# Altium footprint library BB-HEADER-P21-P40.PcbLib: 1 footprints
Each footprint in its own frame and in the unit in brackets; x right, y up, seen from the top. Pads: shape width x height; smd on the part's side, far side on the other; paste and mask are expansions set on the pad; w line width, h text height; cw(c..) or ccw(c..) is an arc to the next point about the centre after c.
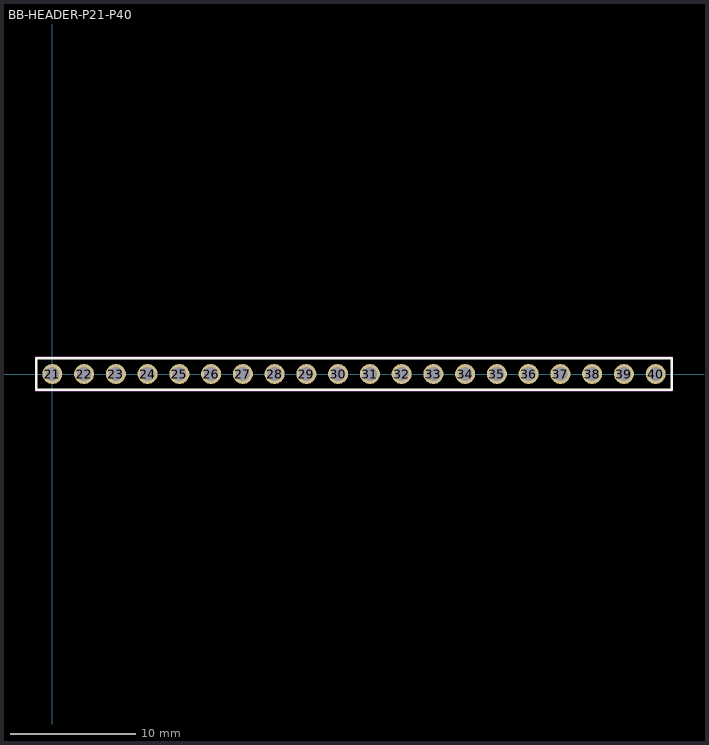
[diagram p0: the footprint, top view; thin cyan lines are the x and y axes]

## BB-HEADER-P21-P40 [mm] "BB Header, Vertical, Male, 0.1\", 2.54mm, P21-P40"
height 11.6
pads (20):
  round 1.6 hole 1.1: 21(0,0) 22(2.54,0)
  round 1.6 hole 1.1 unplated: 23(5.08,0) 24(7.62,0) 25(10.16,0) 26(12.7,0) 27(15.24,0) 28(17.78,0) 29(20.32,0) 30(22.86,0) 31(25.4,0) 32(27.94,0) 33(30.48,0) 34(33.02,0) 35(35.56,0) 36(38.1,0) 37(40.64,0) 38(43.18,0) 39(45.72,0) 40(48.26,0)
Top Overlay:
  lines w0.2: -1.27,-1.27 -1.27,1.27 0.635,1.27 49.53,1.27 49.53,-1.27 -1.27,-1.27
Mechanical 13:
  lines w0.1: -1.27,-1.27 -1.27,1.27 49.53,1.27 49.53,-1.27 -1.27,-1.27
Mechanical 15:
  lines w0.1: -1.32,-1.32 49.58,-1.32 49.58,1.32 -1.32,1.32 -1.32,-1.32
3D body: height 8.54, standoff -3, extent -1.27,-1.27 49.53,1.27